# Altium footprint library Liteon_RGB_LED.PcbLib: 2 footprints
Each footprint in its own frame and in the unit in brackets; x right, y up, seen from the top. Pads: shape width x height; smd on the part's side, far side on the other; paste and mask are expansions set on the pad; w line width, h text height; cw(c..) or ccw(c..) is an arc to the next point about the centre after c.
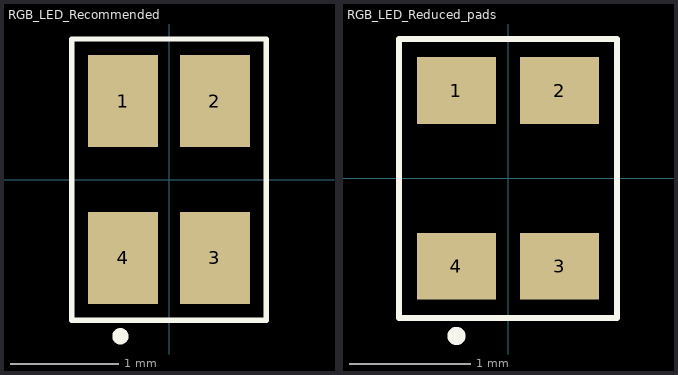
[diagram p0: the footprints below, top view; thin cyan lines are the x and y axes]

## RGB_LED_Recommended [mm] "LTST-C19HE1WT"
height 0.35
pads (4):
  rect 0.65x0.85 smd: 1(-0.425,0.725) 2(0.425,0.725) 3(0.425,-0.725) 4(-0.425,-0.725)
Top Overlay:
  circle w0.1: c-0.45,-1.45 r0.025
  lines w0.05: -0.9,-1.3 -0.9,1.3 0.9,1.3 0.9,-1.3 -0.9,-1.3
3D body: height 0.35, standoff 0, extent -0.8,-0.8 0.8,0.8

## RGB_LED_Reduced_pads [mm] "LTST-C19HE1WT"
height 0.35
pads (4):
  rect 0.65x0.55 smd: 1(-0.425,0.725) 2(0.425,0.725) 3(0.425,-0.725) 4(-0.425,-0.725)
Top Overlay:
  circle w0.1: c-0.425,-1.3 r0.025
  lines w0.05: -0.9,-1.15 -0.9,1.15 0.9,1.15 0.9,-1.15 -0.9,-1.15
3D body: height 0.35, standoff 0, extent -0.8,-0.8 0.8,0.8